# EAGLE library part LTM460* (library linear-technology-3)
DC/DC uModule with PLL, Output Tracking and Margining LTM4601: 12A LTM4603: 6A
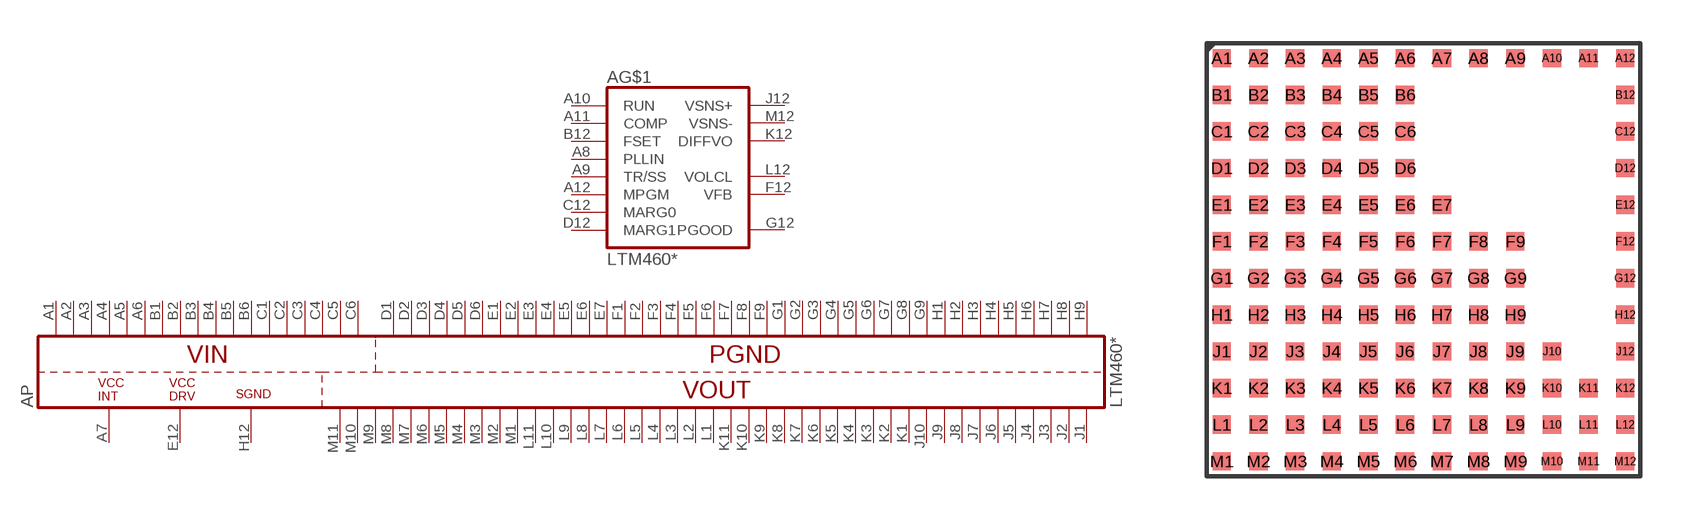
[diagram p46: symbol with the pads of LGA104-4601; footprint LGA104-4601]

Designator prefix A; gates G$1=LTM4601 P=LTM4601-PWR

## LTM4601EV, LTM4601IV, LTM4603EV, LTM4603IV  [LGA104-4601]
A1  P:VIN  pas
A2  P:VIN  pas
A3  P:VIN  pas
A4  P:VIN  pas
A5  P:VIN  pas
A6  P:VIN  pas
A7  P:VCCINT  out
A8  G$1:PLLIN  pas
A9  G$1:TR/SS  pas
A10  G$1:RUN  in
A11  G$1:COMP  in
A12  G$1:MPGM  in
B1  P:VIN  pas
B2  P:VIN  pas
B3  P:VIN  pas
B4  P:VIN  pas
B5  P:VIN  pas
B6  P:VIN  pas
B12  G$1:FSET  pas
C1  P:VIN  pas
C2  P:VIN  pas
C3  P:VIN  pas
C4  P:VIN  pas
C5  P:VIN  pas
C6  P:VIN  pas
C12  G$1:MARG0  in
D1  P:PGND  pas
D2  P:PGND  pas
D3  P:PGND  pas
D4  P:PGND  pas
D5  P:PGND  pas
D6  P:PGND  pas
D12  G$1:MARG1  in
E1  P:PGND  pas
E2  P:PGND  pas
E3  P:PGND  pas
E4  P:PGND  pas
E5  P:PGND  pas
E6  P:PGND  pas
E7  P:PGND  pas
E12  P:VCCDRV  in
F1  P:PGND  pas
F2  P:PGND  pas
F3  P:PGND  pas
F4  P:PGND  pas
F5  P:PGND  pas
F6  P:PGND  pas
F7  P:PGND  pas
F8  P:PGND  pas
F9  P:PGND  pas
F12  G$1:VFB  in
G1  P:PGND  pas
G2  P:PGND  pas
G3  P:PGND  pas
G4  P:PGND  pas
G5  P:PGND  pas
G6  P:PGND  pas
G7  P:PGND  pas
G8  P:PGND  pas
G9  P:PGND  pas
G12  G$1:PGOOD  oc
H1  P:PGND  pas
H2  P:PGND  pas
H3  P:PGND  pas
H4  P:PGND  pas
H5  P:PGND  pas
H6  P:PGND  pas
H7  P:PGND  pas
H8  P:PGND  pas
H9  P:PGND  pas
H12  P:SGND  pas
J1  P:VOUT  pas
J2  P:VOUT  pas
J3  P:VOUT  pas
J4  P:VOUT  pas
J5  P:VOUT  pas
J6  P:VOUT  pas
J7  P:VOUT  pas
J8  P:VOUT  pas
J9  P:VOUT  pas
J10  P:VOUT  pas
J12  G$1:VSNS+  in
K1  P:VOUT  pas
K2  P:VOUT  pas
K3  P:VOUT  pas
K4  P:VOUT  pas
K5  P:VOUT  pas
K6  P:VOUT  pas
K7  P:VOUT  pas
K8  P:VOUT  pas
K9  P:VOUT  pas
K10  P:VOUT  pas
K11  P:VOUT  pas
K12  G$1:DIFFVO  out
L1  P:VOUT  pas
L2  P:VOUT  pas
L3  P:VOUT  pas
L4  P:VOUT  pas
L5  P:VOUT  pas
L6  P:VOUT  pas
L7  P:VOUT  pas
L8  P:VOUT  pas
L9  P:VOUT  pas
L10  P:VOUT  pas
L11  P:VOUT  pas
L12  G$1:VOLCL  in
M1  P:VOUT  pas
M2  P:VOUT  pas
M3  P:VOUT  pas
M4  P:VOUT  pas
M5  P:VOUT  pas
M6  P:VOUT  pas
M7  P:VOUT  pas
M8  P:VOUT  pas
M9  P:VOUT  pas
M10  P:VOUT  pas
M11  P:VOUT  pas
M12  G$1:VSNS-  in

## Footprint LGA104-4601 (pad centres in mm)
smd 0.635 x 0.635: A1 -6.985,6.985; A2 -5.715,6.985; A3 -4.445,6.985; A4 -3.175,6.985; A5 -1.905,6.985; A6 -0.635,6.985; A7 0.635,6.985; A8 1.905,6.985; A9 3.175,6.985; A10 4.445,6.985; A11 5.715,6.985; A12 6.985,6.985; B1 -6.985,5.715; B2 -5.715,5.715; B3 -4.445,5.715; B4 -3.175,5.715; B5 -1.905,5.715; B6 -0.635,5.715; B12 6.985,5.715; C1 -6.985,4.445; C2 -5.715,4.445; C3 -4.445,4.445; C4 -3.175,4.445; C5 -1.905,4.445; C6 -0.635,4.445; C12 6.985,4.445; D1 -6.985,3.175; D2 -5.715,3.175; D3 -4.445,3.175; D4 -3.175,3.175; D5 -1.905,3.175; D6 -0.635,3.175; D12 6.985,3.175; E1 -6.985,1.905; E2 -5.715,1.905; E3 -4.445,1.905; E4 -3.175,1.905; E5 -1.905,1.905; E6 -0.635,1.905; E7 0.635,1.905; E12 6.985,1.905; F1 -6.985,0.635; F2 -5.715,0.635; F3 -4.445,0.635; F4 -3.175,0.635; F5 -1.905,0.635; F6 -0.635,0.635; F7 0.635,0.635; F8 1.905,0.635; F9 3.175,0.635; F12 6.985,0.635; G1 -6.985,-0.635; G2 -5.715,-0.635; G3 -4.445,-0.635; G4 -3.175,-0.635; G5 -1.905,-0.635; G6 -0.635,-0.635; G7 0.635,-0.635; G8 1.905,-0.635; G9 3.175,-0.635; G12 6.985,-0.635; H1 -6.985,-1.905; H2 -5.715,-1.905; H3 -4.445,-1.905; H4 -3.175,-1.905; H5 -1.905,-1.905; H6 -0.635,-1.905; H7 0.635,-1.905; H8 1.905,-1.905; H9 3.175,-1.905; H12 6.985,-1.905; J1 -6.985,-3.175; J2 -5.715,-3.175; J3 -4.445,-3.175; J4 -3.175,-3.175; J5 -1.905,-3.175; J6 -0.635,-3.175; J7 0.635,-3.175; J8 1.905,-3.175; J9 3.175,-3.175; J10 4.445,-3.175; J12 6.985,-3.175; K1 -6.985,-4.445; K2 -5.715,-4.445; K3 -4.445,-4.445; K4 -3.175,-4.445; K5 -1.905,-4.445; K6 -0.635,-4.445; K7 0.635,-4.445; K8 1.905,-4.445; K9 3.175,-4.445; K10 4.445,-4.445; K11 5.715,-4.445; K12 6.985,-4.445; L1 -6.985,-5.715; L2 -5.715,-5.715; L3 -4.445,-5.715; L4 -3.175,-5.715; L5 -1.905,-5.715; L6 -0.635,-5.715; L7 0.635,-5.715; L8 1.905,-5.715; L9 3.175,-5.715; L10 4.445,-5.715; L11 5.715,-5.715; L12 6.985,-5.715; M1 -6.985,-6.985; M2 -5.715,-6.985; M3 -4.445,-6.985; M4 -3.175,-6.985; M5 -1.905,-6.985; M6 -0.635,-6.985; M7 0.635,-6.985; M8 1.905,-6.985; M9 3.175,-6.985; M10 4.445,-6.985; M11 5.715,-6.985; M12 6.985,-6.985